# Altium footprint library Footprint_THT_Connectors.PcbLib: 5 footprints
Each footprint in its own frame and in the unit in brackets; x right, y up, seen from the top. Pads: shape width x height; smd on the part's side, far side on the other; paste and mask are expansions set on the pad; w line width, h text height; cw(c..) or ccw(c..) is an arc to the next point about the centre after c.
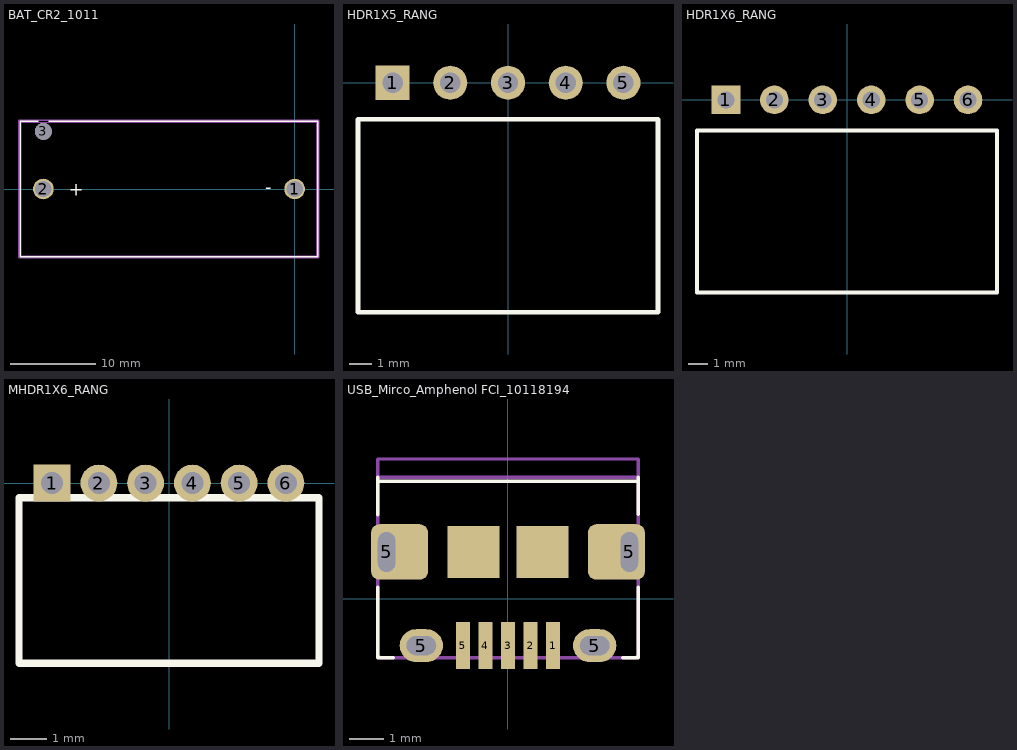
[diagram p0: the footprints below, top view; thin cyan lines are the x and y axes]

## BAT_CR2_1011 [mil] "Keystone Electronics 1011"
pads (3):
  round 95 hole 75 mask+0: 1(0,0) 2(-1156,0)
  round 78 hole 78 unplated: 3(-1156,265)
Top Overlay:
  lines w6: -1180.46,311 -1263,311 -1263,-311 107,-311 107,311 -1131.54,311
  text "-" at -105.01,24.99 h60
  text "+" at -1040,-30 h60
Mechanical 13:
  lines w1: -1258,-306 -1258,306 102,306 102,-306 -1258,-306
Mechanical 15:
  lines w6: -1268,-316 112,-316 112,316 -1268,316 -1268,-316
3D body: height 10, standoff 0, extent 0,0 10,10

## HDR1X5_RANG [mm] "Header 5P Right Angle"
pads (5):
  rect 1.5x1.5 hole 0.9: 1(-5.08,0)
  round 1.5 hole 0.9: 2(-2.54,0) 3(0,0) 4(2.54,0) 5(5.08,0)
Top Overlay:
  lines w0.2: -6.6,-10.1 6.6,-10.1 ; -6.6,-1.6 6.6,-1.6
  lines w0.203: -6.6,-10.1 -6.6,-1.6 ; 6.6,-10.1 6.6,-1.6

## HDR1X6_RANG [mm] "Header 6P Right Angle"
pads (6):
  rect 1.5x1.5 hole 0.9: 1(-6.35,0)
  round 1.5 hole 0.9: 2(-3.81,0) 3(-1.27,0) 4(1.27,0) 5(3.81,0) 6(6.35,0)
Top Overlay:
  lines w0.2: -7.87,-10.1 7.87,-10.1 ; -7.87,-1.6 7.87,-1.6
  lines w0.203: -7.87,-10.1 -7.87,-1.6 ; 7.87,-10.1 7.87,-1.6

## MHDR1X6_RANG [mm]
pads (6):
  rect 1x1 hole 0.6: 1(-3.175,0)
  round 1 hole 0.6: 2(-1.905,0) 3(-0.635,0) 4(0.635,0) 5(1.905,0) 6(3.175,0)
Top Overlay:
  lines w0.2: -4.075,-0.4 4.075,-0.4
  lines w0.203: -4.075,-0.4 -4.075,-4.9 4.075,-4.9 4.075,-0.4

## USB_Mirco_Amphenol FCI_10118194 [mm] "Amphenol FCI 10118194 Micro USB Connector"
height 3
pads (11):
  rect 0.4x1.35 smd: 1(1.3,-1.35) 2(0.65,-1.35) 3(0,-1.35) 4(-0.65,-1.35) 5(-1.3,-1.35)
  rrect30% 1.65x1.6 hole 1.15 slot 0.5 at 0 deg copper offset 0.375,0: 5(-3.5,1.35)
  oval 1.25x0.95 hole 0.55 slot 0.85 at 0 deg: 5(-2.5,-1.35) 5(2.5,-1.35)
  rrect30% 1.65x1.6 hole 1.15 slot 0.5 at 0 deg copper offset -0.375,0: 5(3.5,1.35)
  rect 1.5x1.5 smd: ""(-1,1.35) ""(1,1.35)
Top Overlay:
  lines w0.1: -3.75,0.334 -3.75,-1.698 -3.302,-1.698 ; -3.75,2.426 -3.75,3.5 ; -3.75,3.382 3.75,3.382 ; 3.302,-1.698 3.75,-1.698 3.75,0.334 ; 3.75,2.433 3.75,3.5
Mechanical 13:
  lines w0.1: -3.75,3.5 -3.75,4.03 3.75,4.03 3.75,3.5 ; -3.75,3.5 -3.75,-1.631 -3.683,-1.698 3.683,-1.698 3.75,-1.631 3.75,3.5 ; -3.75,3.5 3.75,3.5
3D body "10118194c.stp": height 3.12, standoff -0.15, extent -4.025,-1.516 4.025,4.064